# EAGLE library part TEKNIC_MOTOR_8PIN (library 3D_MIG_Controller)
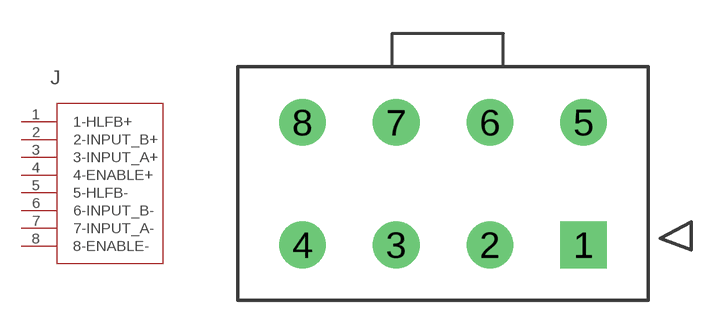
[diagram p75: symbol with the pads of CON_39281083; footprint CON_39281083]

Designator prefix J

## TEKNIC_MOTOR_8PIN (COPYRIGHT: Copyright (C) 2022 Ultra Librarian. All rights reserved.; MANUFACTURER_PART_NUMBER: 39281083; MFR_NAME: Molex Connector Corporation)  [CON_39281083]
1  1-HLFB+  pas
2  2-INPUT_B+  pas
3  3-INPUT_A+  pas
4  4-ENABLE+  pas
5  5-HLFB-  pas
6  6-INPUT_B-  pas
7  7-INPUT_A-  pas
8  8-ENABLE-  pas

## Footprint CON_39281083 (pad centres in mm)
drill 1.397 pad 1.905 square: 1 12.6,-5.5
drill 1.397 pad 1.905: 2 8.4,-5.5; 3 4.2,-5.5; 4 0,-5.5; 5 12.6,0; 6 8.4,0; 7 4.2,0; 8 0,0